# EAGLE library part 7-SEGMENT-4DIGIT-YOUNGSUN (library geoffculp)
This is a part for the 4-Digit 7-segment LEDs from Young Sun. Different from the Digikey LEDs, all 16 pins are used. The LONGPADS Variant is used for a test jig, but you may like it because there is more pad to solder to. If you are concerned about routing space, the standard works just fine though.
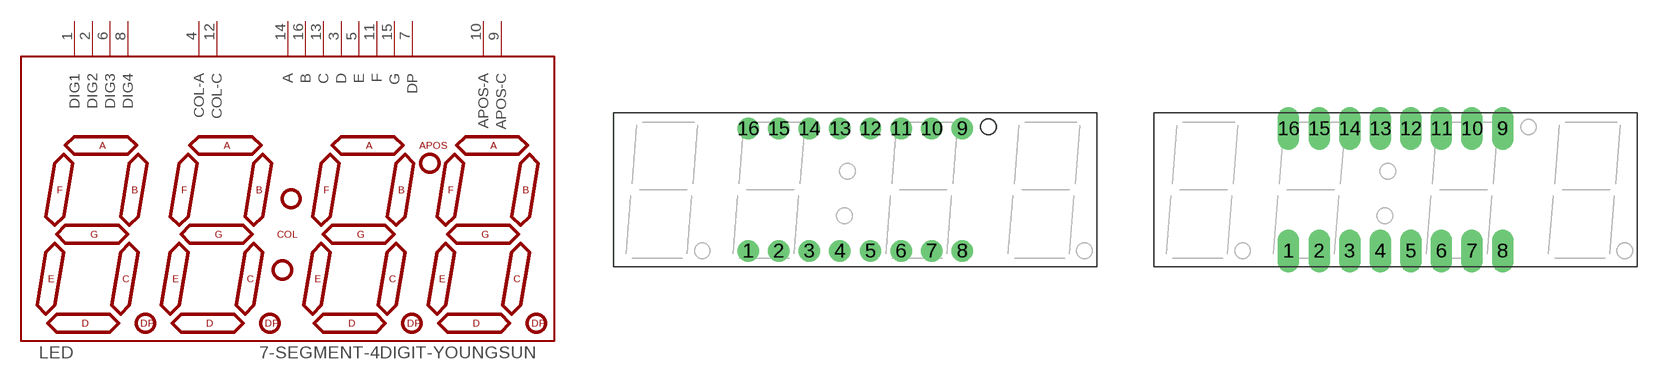
[diagram p256: symbol with the pads of 7-SEGMENT-4DIGIT-YOUNGSUN; footprints 7-SEGMENT-4DIGIT-YOUNGSUN, 7-SEGMENT-4DIGIT-YOUNGSUN-LONGPADS]

Designator prefix LED

## 7-SEGMENT-4DIGIT-YOUNGSUN  [7-SEGMENT-4DIGIT-YOUNGSUN]
1  DIG1
2  DIG2
3  D
4  COL-A
5  E
6  DIG3
7  DP
8  DIG4
9  APOS-C
10  APOS-A
11  F
12  COL-C
13  C
14  A
15  G
16  B

## 7-SEGMENT-4DIGIT-YOUNGSUNLONGPADS  [7-SEGMENT-4DIGIT-YOUNGSUN-LONGPADS]
Pads as for 7-SEGMENT-4DIGIT-YOUNGSUN

## Footprint 7-SEGMENT-4DIGIT-YOUNGSUN (pad centres in mm)
This is a package for the 4-digit 7-segment RED LED from Young Sun.
drill 0.8 pad 1.778 round: 1 -8.89,-5.08; 2 -6.35,-5.08; 3 -3.81,-5.08; 4 -1.27,-5.08; 5 1.27,-5.08; 6 3.81,-5.08; 7 6.35,-5.08; 8 8.89,-5.08; 9 8.89,5.08; 10 6.35,5.08; 11 3.81,5.08; 12 1.27,5.08; 13 -1.27,5.08; 14 -3.81,5.08; 15 -6.35,5.08; 16 -8.89,5.08

## Footprint 7-SEGMENT-4DIGIT-YOUNGSUN-LONGPADS (pad centres in mm)
drill 1.016 pad 1.778 long: 1 -8.89,-5.08; 2 -6.35,-5.08; 3 -3.81,-5.08; 4 -1.27,-5.08; 5 1.27,-5.08; 6 3.81,-5.08; 7 6.35,-5.08; 8 8.89,-5.08; 9 8.89,5.08; 10 6.35,5.08; 11 3.81,5.08; 12 1.27,5.08; 13 -1.27,5.08; 14 -3.81,5.08; 15 -6.35,5.08; 16 -8.89,5.08